# EAGLE library part MICRO_USB (library SummerCart64)
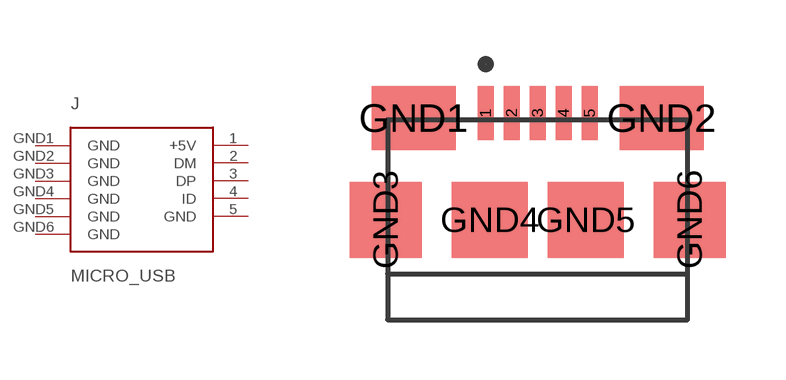
[diagram p2: symbol with the pads of MICRO_USB; footprint MICRO_USB]

Designator prefix J

## MICRO_USB  [MICRO_USB]
1  +5V  pwr
2  DM
3  DP
4  ID
5  GND  pwr
GND1  GND  pwr
GND2  GND  pwr
GND3  GND  pwr
GND4  GND  pwr
GND5  GND  pwr
GND6  GND  pwr

## Footprint MICRO_USB (pad centres in mm)
smd 0.4 x 1.35: 1 -1.3,2.675; 2 -0.65,2.675; 3 0,2.675; 4 0.65,2.675; 5 1.3,2.675
smd 2.1 x 1.6: GND1 -3.1,2.55; GND2 3.1,2.55
smd 1.8 x 1.9: GND3 -3.8,0; GND6 3.8,0
smd 1.9 x 1.9: GND4 -1.2,0; GND5 1.2,0